# Altium footprint library DTM1312PA.PcbLib: 1 footprints
Each footprint in its own frame and in the unit in brackets; x right, y up, seen from the top. Pads: shape width x height; smd on the part's side, far side on the other; paste and mask are expansions set on the pad; w line width, h text height; cw(c..) or ccw(c..) is an arc to the next point about the centre after c.
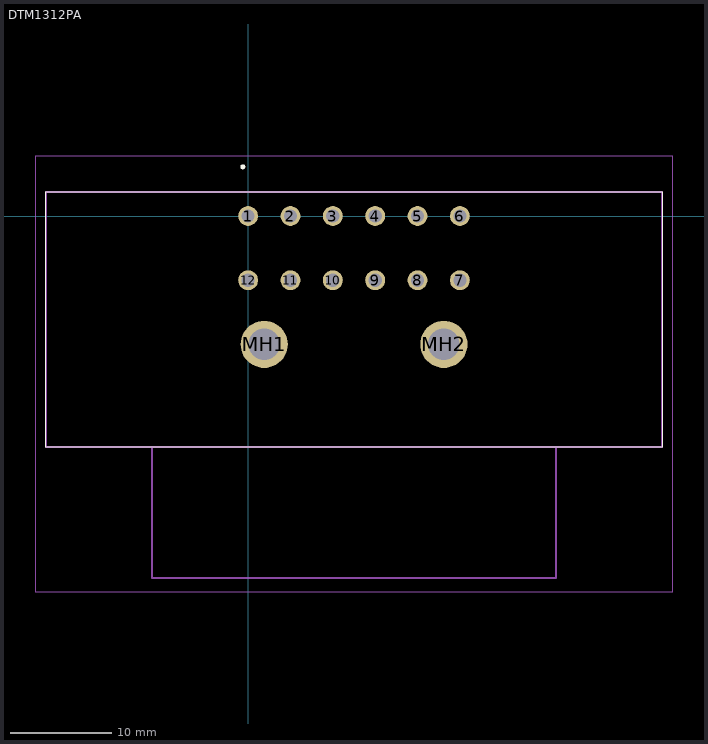
[diagram p0: the footprint, top view; thin cyan lines are the x and y axes]

## DTM1312PA [mm]
pads (14):
  round 1.965 hole 1.31: 1(0,0) 2(4.19,0) 3(8.38,0) 4(12.57,0) 5(16.76,0) 6(20.95,0) 7(20.95,-6.35) 8(16.76,-6.35) 9(12.57,-6.35) 10(8.38,-6.35) 11(4.19,-6.35) 12(0,-6.35)
  round 4.665 hole 3.11: MH1(1.59,-12.7) MH2(19.37,-12.7)
Top Overlay:
  lines w0.1: -20,-22.86 40.96,-22.86 40.96,2.4 -20,2.4 -20,-22.86
  lines w0.3: -0.525,4.77 -0.525,4.77 ; -0.525,4.77 ccw(c-0.525,4.87) -0.525,4.97 ; -0.525,4.77 cw(c-0.525,4.87) -0.525,4.97 ; -0.525,4.97 -0.525,4.97
Mechanical 15:
  lines w0.2: -9.525,-22.86 -9.525,-35.81 30.475,-35.81 30.475,-22.86 ; -20,-22.86 40.96,-22.86 40.96,2.4 -20,2.4 -20,-22.86
Mechanical 20:
  lines w0.1: -21.005,-37.23 41.955,-37.23 41.955,5.97 -21.005,5.97 -21.005,-37.23